# Altium footprint library 00001-A-01.PcbLib: 40 footprints (part 1 of 3)
Each footprint in its own frame and in the unit in brackets; x right, y up, seen from the top. Pads: shape width x height; smd on the part's side, far side on the other; paste and mask are expansions set on the pad; w line width, h text height; cw(c..) or ccw(c..) is an arc to the next point about the centre after c.
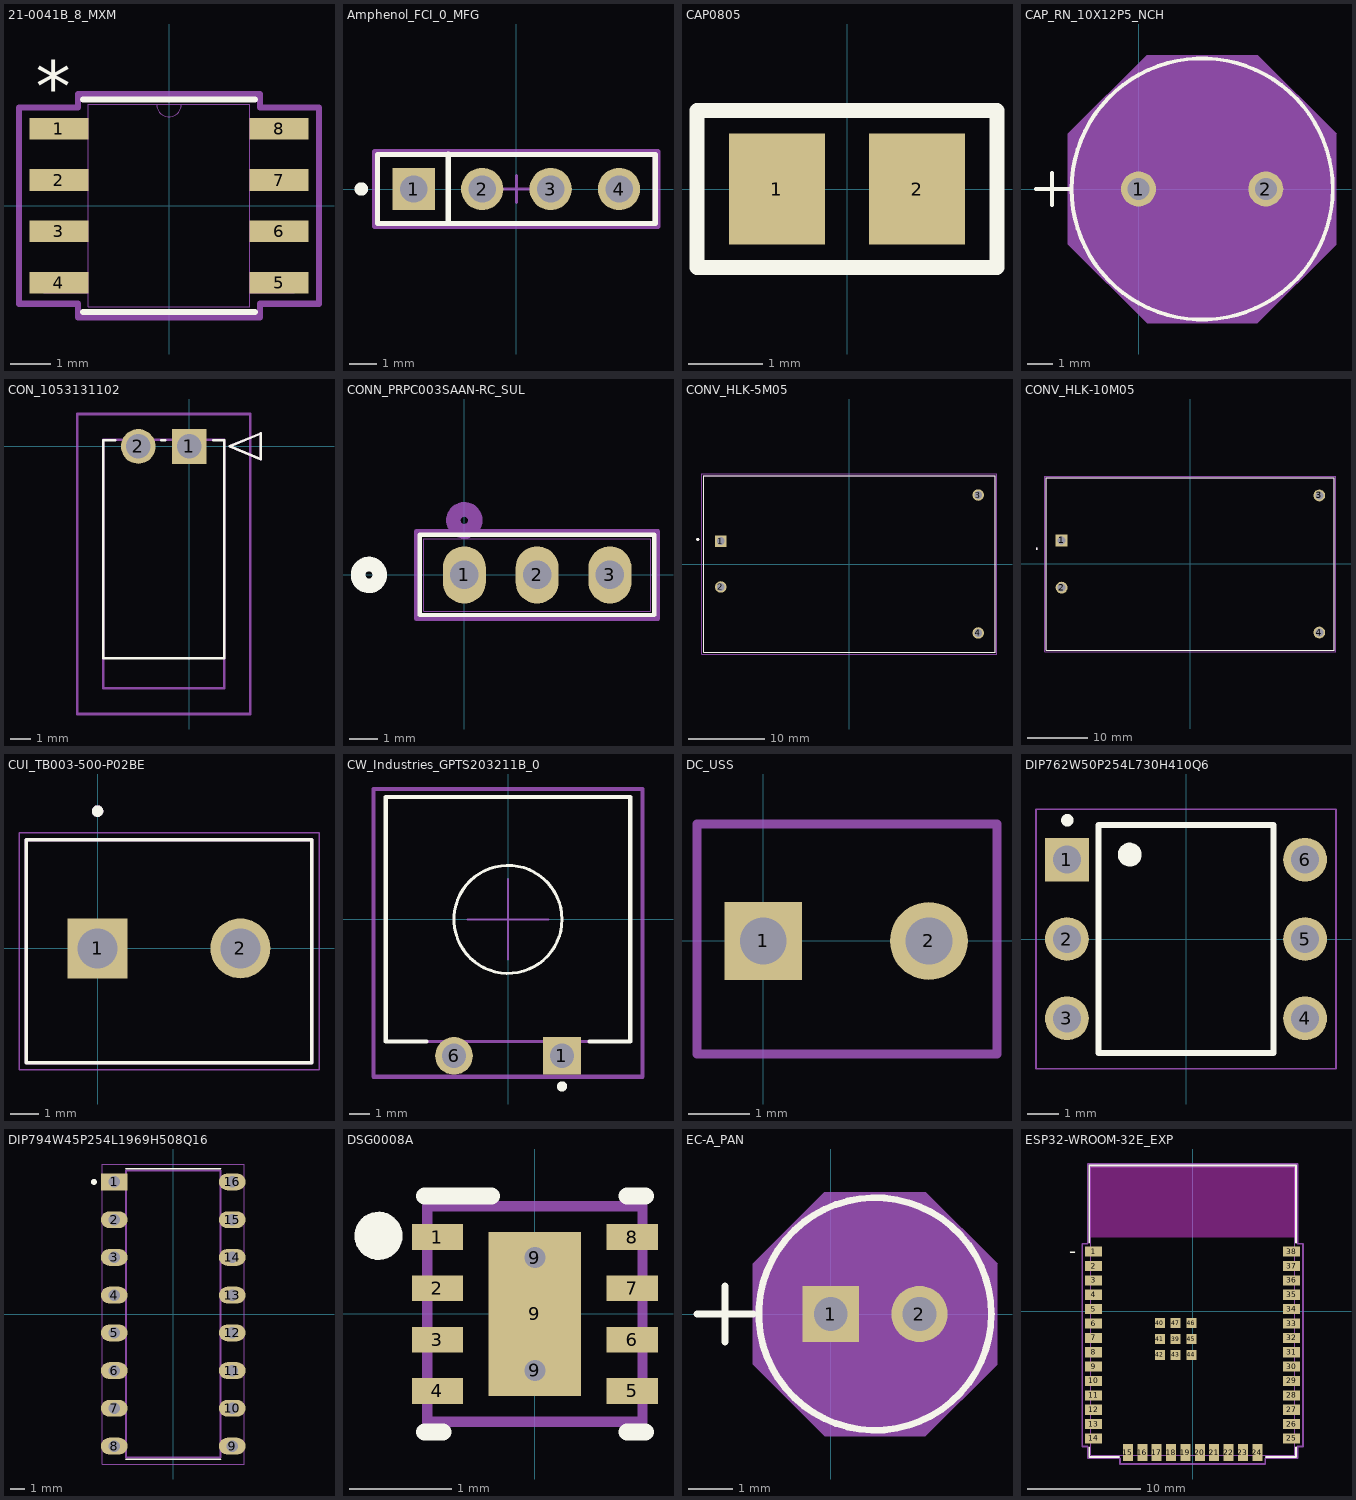
[diagram p0: the footprints below, top view; thin cyan lines are the x and y axes]

## 21-0041B_8_MXM [mil]
pads (8):
  rect 57.5x21 smd paste+0 mask+0: 1(-107.25,75) 2(-107.25,25) 3(-107.25,-25) 4(-107.25,-75) 5(107.25,-75) 6(107.25,-25) 7(107.25,25) 8(107.25,75)
Top Overlay:
  lines w6: -83.5,-103.5 83.5,-103.5 ; -83.5,103.5 83.5,103.5
  text "*" at -129.75,91 h50
Mechanical 13:
  lines w0: -12,98.5 ccw(c0,98.5) 12,98.5
  lines w1: -122,-84.5 -122,-65.5 -78.5,-65.5 -78.5,-84.5 -122,-84.5 ; -122,-34.5 -122,-15.5 -78.5,-15.5 -78.5,-34.5 -122,-34.5 ; -122,15.5 -122,34.5 -78.5,34.5 -78.5,15.5 -122,15.5 ; -122,65.5 -122,84.5 -78.5,84.5 -78.5,65.5 -122,65.5 ; -78.5,-98.5 78.5,-98.5 78.5,98.5 -78.5,98.5 -78.5,-98.5 ; 78.5,-84.5 78.5,-65.5 122,-65.5 122,-84.5 78.5,-84.5 ; 78.5,-34.5 78.5,-15.5 122,-15.5 122,-34.5 78.5,-34.5 ; 78.5,15.5 78.5,34.5 122,34.5 122,15.5 78.5,15.5 ; 78.5,65.5 78.5,84.5 122,84.5 122,65.5 78.5,65.5
  text "*" at -76,45.5 h50
Mechanical 15:
  lines w6: -146,-95.5 -146,95.5 -88.5,95.5 -88.5,108.5 88.5,108.5 88.5,95.5 146,95.5 146,-95.5 88.5,-95.5 88.5,-108.5 -88.5,-108.5 -88.5,-95.5 -146,-95.5
3D body "21-0041B_8_MXM.step": height 69.09, standoff 0, extent -122.01,-98.5 122.01,98.5

## Amphenol_FCI_0_MFG [mm]
pads (4):
  rect 1.57x1.57 hole 1.02 paste-2539.97 mask+0: 1(-3.81,0)
  round 1.57 hole 1.02 paste-2539.97 mask+0: 2(-1.27,0) 3(1.27,0) 4(3.81,0)
Top Overlay:
  circle w0.25: c-5.755,0 r0.125
  lines w0.2: -2.525,-1.275 -2.525,1.285 ; -5.155,-1.28 -5.155,1.28 5.155,1.28 5.155,-1.28 -5.155,-1.28
Mechanical 10:
  lines w0.2: -5.255,-1.38 -5.255,1.38 5.255,1.38 5.255,-1.38 -5.255,-1.38
Bottom Component Outline:
  lines w0.2: -5.155,-1.28 -5.155,1.28 5.155,1.28 5.155,-1.28 -5.155,-1.28
Mechanical 15:
  lines w0.1: -0.5,0 0.5,0 ; 0,-0.5 0,0.5
  lines w0.2: -5.255,-1.38 -5.255,1.38 5.255,1.38 5.255,-1.38 -5.255,-1.38
3D body "Conn_Amphenol_FCI_68000-204HLF_eec.STEP": height 0.25, standoff 0, extent -5.255,-1.38 5.255,1.38

## CAP0805 [mm]
pads (2):
  rect 1.3x1.5 smd: 1(-0.95,0) 2(0.95,0)
Top Overlay:
  lines w0.2: -2.032,-1.065 -2.032,1.065 2.032,1.065 2.032,-1.065 -2.032,-1.065
3D body "CAP0805.step": height 0.78, standoff 0, extent -1,-0.625 1,0.625

## CAP_RN_10X12P5_NCH [mil]
pads (2):
  round 54 / inner round 60 / far side round 54 hole 34 paste-99999 mask+0: 1(0,0) 2(196.85,0)
Top Overlay:
  circle w6: c98.43,0 r202
  lines w6: -158.57,0 -108.57,0 ; -133.57,-25 -133.57,25
Mechanical 13:
  circle w0: c98.43,0 r197
  lines w1: -158.57,0 -108.57,0 ; -133.57,-25 -133.57,25
Mechanical 15:
  region: -108.57,85.24 13.19,207 183.66,207 305.43,85.24 305.43,-85.24 183.66,-207 13.19,-207 -108.57,-85.24
  lines w1: -108.57,-85.24 13.19,-207 183.66,-207 305.43,-85.24 305.43,85.24 183.66,207 13.19,207 -108.57,85.24 -108.57,-85.24
3D body "CAP_RN_10X12P5_NCH.step": height 551.61, standoff -172.01, extent -98.58,-196.88 296.4,196.88

## CON_1053131102 [mm]
pads (2):
  rect 1.7x1.7 / inner round 1.524 / far side rect 1.7x1.7 hole 1.2 paste-2539.97 mask+0.076: 1(0,0)
  round 1.7 / inner round 1.524 / far side round 1.7 hole 1.2 paste-2539.97 mask+0.076: 2(-2.5,0)
Top Overlay:
  lines w0.127: -3.628,0.31 -4.22,0.31 -4.22,-10.38 1.72,-10.38 1.72,0.31 1.17,0.31 ; -1.372,0.31 -1.17,0.31 ; 1.974,0 3.498,0.635 3.498,-0.635 1.974,0
Mechanical 13:
  lines w0.127: -4.22,-11.84 1.72,-11.84 1.72,0.32 -4.22,0.32 -4.22,-11.84 ; 1.974,0 3.498,0.635 3.498,-0.635 1.974,0
Mechanical 15:
  lines w0.127: -5.49,-13.11 -5.49,1.59 2.99,1.59 2.99,-13.11 -5.49,-13.11
3D body "1053131102.stp": height 7.2, standoff -2.64, extent -4.24,-11.811 1.7,0.346

## CONN_PRPC003SAAN-RC_SUL [mm]
pads (3):
  oval 1.5x2 / inner oval 1.524x2 / far side oval 1.499x2 hole 0.991 paste-2539.97 mask+0: 1(0,0) 2(2.54,0) 3(5.08,0)
Top Overlay:
  circle w0.508: c-3.327,0 r0.381
  lines w0.152: -1.549,-1.397 6.629,-1.397 6.629,1.397 -1.549,1.397 -1.549,-1.397
Bottom Overlay:
  circle w0.508: c-3.327,0 r0.381
Mechanical 13:
  circle w0.508: c0,1.905 r0.381
  lines w0.025: -1.422,-1.27 6.502,-1.27 6.502,1.27 -1.422,1.27 -1.422,-1.27
Mechanical 15:
  lines w0.152: -1.676,-1.524 -1.676,1.524 6.756,1.524 6.756,-1.524 -1.676,-1.524
3D body "PRPC003SAAN-RC.STEP": height 7.62, standoff -3.05, extent -1.27,-1.165 6.35,1.375

## CONV_HLK-5M05 [mm]
pads (4):
  rect 1.5x1.5 / inner round 1.5 / far side rect 1.5x1.5 hole 1: 1(-16.8,3)
  round 1.5 hole 1: 2(-16.8,-3) 3(16.8,9) 4(16.8,-9)
Top Overlay:
  circle w0.2: c-19.8,3.2 r0.1
  lines w0.127: -19,-11.5 -19,11.5 19,11.5 19,-11.5 -19,-11.5
Mechanical 13:
  circle w0.2: c-19.8,3.2 r0.1
  lines w0.127: -19,-11.5 19,-11.5 19,11.5 -19,11.5 -19,-11.5
Mechanical 15:
  lines w0.05: -19.25,-11.75 19.25,-11.75 19.25,11.75 -19.25,11.75 -19.25,-11.75
3D body "step_temp.STEP": height 18.3, standoff -4.7, extent -19,-11.5 19,11.5

## CONV_HLK-10M05 [mm]
height 22
pads (4):
  rect 1.95x1.95 / inner round 1.95 / far side rect 1.95x1.95 hole 1.3: 1(-21.25,3.9)
  round 1.95 hole 1.3: 2(-21.25,-3.9) 3(21.25,11.3) 4(21.25,-11.3)
Top Overlay:
  circle w0.2: c-25.37,2.5 r0.1
  lines w0.127: -23.75,-14.25 -23.75,14.25 23.75,14.25 23.75,-14.25 -23.75,-14.25
Mechanical 13:
  circle w0.2: c-25.37,2.5 r0.1
  lines w0.127: -23.75,-14.25 -23.75,14.25 23.75,14.25 23.75,-14.25 -23.75,-14.25
Mechanical 15:
  lines w0.05: -24,-14.5 24,-14.5 24,14.5 -24,14.5 -24,-14.5
3D body "step_temp.STEP": height 22, standoff -5, extent -23.75,-14.25 23.75,14.25

## CUI_TB003-500-P02BE [mm]
pads (2):
  rect 2.1x2.1 / inner round 2.1 / far side rect 2.1x2.1 hole 1.4: 1(0,0)
  round 2.1 hole 1.4: 2(5,0)
Top Overlay:
  circle w0.2: c0,4.8 r0.1
  lines w0.127: -2.5,-4 -2.5,3.8 7.5,3.8 7.5,-4 -2.5,-4
Mechanical 13:
  circle w0.2: c0,4.8 r0.1
  lines w0.127: -2.5,-4 -2.5,3.8 7.5,3.8 7.5,-4 -2.5,-4
Mechanical 15:
  lines w0.05: -2.75,-4.25 7.75,-4.25 7.75,4.05 -2.75,4.05 -2.75,-4.25
3D body "Same_Sky_TB003-500-P02BE.step": height 10.3, standoff -4, extent -3.062,-3.735 7.438,4.065

## CW_Industries_GPTS203211B_0 [mm]
pads (2):
  rect 1.85x1.85 hole 1.2 paste-2539.97 mask+0: 1(2.65,-6.7)
  round 1.85 hole 1.2 paste-2539.97 mask+0: 6(-2.65,-6.7)
Top Overlay:
  circle w0.15: c0,0 r2.65
  circle w0.25: c2.65,-8.2 r0.125
  lines w0.2: -4,-6 -6,-6 -6,6 6,6 6,-6 4,-6
Mechanical 10:
  lines w0.2: -6.6,-7.725 -6.6,6.4 6.6,6.4 6.6,-7.725 -6.6,-7.725
  text ".Designator" at 0,-0.663 h1
Bottom Component Outline:
  lines w0.15: -6,-6 -6,6 6,6 6,-6 -6,-6
Mechanical 15:
  lines w0.1: -1.98,0 1.98,0 ; 0,-1.98 0,1.98
  lines w0.2: -6.6,-7.725 -6.6,6.4 6.6,6.4 6.6,-7.725 -6.6,-7.725
3D body "3dmodel.step": height 0.25, standoff 0, extent -6.6,-7.725 6.6,6.4

## DC_USS [mil]
pads (2):
  rect 50x50 / inner round 60 / far side rect 50x50 hole 30 paste-99999 mask+0: 1(0,0)
  round 50 / inner round 60 / far side round 50 hole 30 paste-99999 mask+0: 2(106.3,0)
Mechanical 15:
  lines w6: -42.5,-72.5 -42.5,75 150,75 150,-72.5 -42.5,-72.5
3D body "NTCLE213E3.step": height 759.7, standoff -854.33, extent -4.01,-46.8 111.73,51.62

## DIP762W50P254L730H410Q6 [mm]
pads (6):
  rect 1.4x1.4 / inner round 1.4 / far side rect 1.4x1.4 hole 0.9: 1(-3.81,2.54)
  round 1.4 hole 0.9: 2(-3.81,0) 3(-3.81,-2.54) 4(3.81,-2.54) 5(3.81,0) 6(3.81,2.54)
Top Overlay:
  circle w0.2: c-1.8,2.7 r0.283
  circle w0.2: c-3.8,3.8 r0.1
  lines w0.2: -1.8,2.7 -2,2.6 ; -2,2.6 -1.8,2.9 -1.6,2.7 -1.7,2.5 -2,2.6 ; -2.8,-3.65 2.8,-3.65 2.8,3.65 -2.8,3.65 -2.8,-3.65
Mechanical 15:
  lines w0.05: -4.8,-4.15 4.8,-4.15 4.8,4.15 -4.8,4.15 -4.8,-4.15
3D body "step_temp.STEP": height 4.61, standoff -3.45, extent -4.108,-4.3 4.108,4.3

## DIP794W45P254L1969H508Q16 [mm]
pads (16):
  rect 1.8x1.13 / inner oval 1.8x1.13 / far side rect 1.8x1.13 hole 0.78: 1(-3.97,8.89)
  oval 1.8x1.13 hole 0.78: 2(-3.97,6.35) 3(-3.97,3.81) 4(-3.97,1.27) 5(-3.97,-1.27) 6(-3.97,-3.81) 7(-3.97,-6.35) 8(-3.97,-8.89) 9(3.97,-8.89) 10(3.97,-6.35) 11(3.97,-3.81) 12(3.97,-1.27) 13(3.97,1.27) 14(3.97,3.81) 15(3.97,6.35) 16(3.97,8.89)
Top Overlay:
  circle w0.2: c-5.334,8.89 r0.1
  lines w0.127: -3.175,-9.775 3.175,-9.775 ; -3.175,9.775 3.175,9.775
Mechanical 13:
  lines w0.127: -3.175,-9.653 3.175,-9.653 3.175,9.653 -3.175,9.653 -3.175,-9.653
Mechanical 15:
  lines w0.05: -4.785,-10.095 4.785,-10.095 4.785,10.095 -4.785,10.095 -4.785,-10.095
3D body "step_temp.STEP": height 5.08, standoff -3.28, extent -3.845,-9.652 3.845,9.652

## DSG0008A [mm]
pads (11):
  rect 0.5x0.25 smd paste+0 mask+0.051: 1(-0.95,0.75) 2(-0.95,0.25) 3(-0.95,-0.25) 4(-0.95,-0.75) 5(0.95,-0.75) 6(0.95,-0.25) 7(0.95,0.25) 8(0.95,0.75)
  round 0.5 / inner round 1.524 / far side round 0.5 hole 0.203 paste-2539.97 mask+0.076: 9(0,-0.55) 9(0,0.55)
  rect 0.9x1.6 smd paste-0.45 mask+0.051: 9(0,0)
Top Overlay:
  circle w0.07: c-1.524,0.762 r0.2
  region: -1.524,0.562 -1.564,0.562 -1.637,0.592 -1.694,0.649 -1.724,0.722 -1.724,0.762 -1.724,0.802 -1.694,0.875 -1.637,0.932 -1.564,0.962 -1.524,0.962 -1.484,0.962 -1.411,0.932 -1.354,0.875 -1.324,0.802 -1.324,0.762 -1.324,0.722 -1.354,0.649 -1.411,0.592 -1.484,0.562
  lines w0.17: -1.075,-1.15 -0.9,-1.15 ; -1.075,1.15 -0.425,1.15 ; 0.9,-1.15 1.075,-1.15 ; 0.9,1.15 1.075,1.15
Top Paste:
  region: -0.449,-0.761 -0.45,-0.751 -0.45,-0.149 -0.449,-0.139 -0.446,-0.13 -0.442,-0.122 -0.436,-0.114 -0.428,-0.108 -0.42,-0.104 -0.411,-0.101 -0.401,-0.1 0.401,-0.1 0.411,-0.101 0.42,-0.104 0.428,-0.108 0.436,-0.114 0.442,-0.122 0.446,-0.13 0.449,-0.139 0.45,-0.149 0.45,-0.751 0.449,-0.761 0.446,-0.77 0.442,-0.778 0.436,-0.786 0.428,-0.792 0.42,-0.796 0.411,-0.799 0.401,-0.8 -0.401,-0.8 -0.411,-0.799 -0.42,-0.796 -0.428,-0.792 -0.436,-0.786 -0.442,-0.778 -0.446,-0.77
  region: -0.449,0.139 -0.45,0.149 -0.45,0.751 -0.449,0.761 -0.446,0.77 -0.442,0.778 -0.436,0.786 -0.428,0.792 -0.42,0.796 -0.411,0.799 -0.401,0.8 0.401,0.8 0.411,0.799 0.42,0.796 0.428,0.792 0.436,0.786 0.442,0.778 0.446,0.77 0.449,0.761 0.45,0.751 0.45,0.149 0.449,0.139 0.446,0.13 0.442,0.122 0.436,0.114 0.428,0.108 0.42,0.104 0.411,0.101 0.401,0.1 -0.401,0.1 -0.411,0.101 -0.42,0.104 -0.428,0.108 -0.436,0.114 -0.442,0.122 -0.446,0.13
Mechanical 13:
  lines w0.1: -1.05,-1.05 1.05,-1.05 1.05,1.05 -1.05,1.05 -1.05,-1.05
3D body "DSG0008A.stp": height 0.77, standoff 0, extent -1,-1 1,1

## EC-A_PAN [mil]
pads (2):
  rect 50x50 / inner round 60 / far side rect 50x50 hole 30 paste-99999 mask+0: 1(0,0)
  round 50 / inner round 60 / far side round 50 hole 30 paste-99999 mask+0: 2(79,0)
Top Overlay:
  circle w6: c39.5,0 r103.5
  lines w6: -119,0 -69,0 ; -94,-25 -94,25
Mechanical 13:
  circle w0: c39.5,0 r98.5
  lines w1: -119,0 -69,0 ; -94,-25 -94,25
Mechanical 15:
  region: -69,44.68 -5.18,108.5 84.18,108.5 148,44.68 148,-44.68 84.18,-108.5 -5.18,-108.5 -69,-44.68
  lines w1: -69,-44.68 -5.18,-108.5 84.18,-108.5 148,-44.68 148,44.68 84.18,108.5 -5.18,108.5 -69,44.68 -69,-44.68
3D body "EC-A_PAN.step": height 423.62, standoff -160, extent -59.02,-98.5 139.21,98.5

## ESP32­WROOM­32E_EXP [mil]
pads (47):
  rect 59x35 smd paste+0 mask+0: 1(-344.5,207.1) 2(-344.5,157.1) 3(-344.5,107.1) 4(-344.5,57.1) 5(-344.5,7.1) 6(-344.5,-42.9) 7(-344.5,-92.9) 8(-344.5,-142.9) 9(-344.5,-192.9) 10(-344.5,-242.9) 11(-344.5,-292.9) 12(-344.5,-342.9) 13(-344.5,-392.9) 14(-344.5,-442.9) 25(344.5,-442.9) 26(344.5,-392.9) 27(344.5,-342.9) 28(344.5,-292.9) 29(344.5,-242.9) 30(344.5,-192.9) 31(344.5,-142.9) 32(344.5,-92.9) 33(344.5,-42.9) 34(344.5,7.1) 35(344.5,57.1) 36(344.5,107.1) 37(344.5,157.1) 38(344.5,207.1)
  rect 35x59 smd paste+0 mask+0: 15(-225,-492.15) 16(-175,-492.15) 17(-125,-492.15) 18(-75,-492.15) 19(-25,-492.15) 20(25,-492.15) 21(75,-492.15) 22(125,-492.15) 23(175,-492.15) 24(225,-492.15)
  rect 35x35 smd paste+0 mask+0: 39(-59.1,-96.9) 40(-114.2,-41.8) 41(-114.2,-96.9) 42(-114.2,-152) 43(-59.1,-152) 44(-4,-152) 45(-4,-96.9) 46(-4,-41.8) 47(-59.1,-41.8)
Top Overlay:
  lines w6: -359.5,-473.5 -359.5,-507 -255.6,-507 ; -359.5,237.7 -359.5,507 359.5,507 359.5,237.7 ; 255.6,-507 359.5,-507 359.5,-473.5
  text "-" at -430,185 h50
Keep-Out Layer:
  region: 354.5,258 354.5,502 -354.5,502 -354.5,258
Mechanical 13:
  lines w1: -354.5,-502 -354.5,502 354.5,502 354.5,-502 -354.5,-502
  text "*" at -302.5,182.1 h50
Mechanical 15:
  lines w6: -384,-470.4 -364.5,-470.4 -364.5,-512 -252.5,-512 -252.5,-531.65 252.5,-531.65 252.5,-512 364.5,-512 364.5,-470.4 384,-470.4 384,234.6 364.5,234.6 364.5,512 -364.5,512 -364.5,234.6 -384,234.6 -384,-470.4
3D body "ESP32-WROOM-32E-N4.STEP": height 127.95, standoff 0, extent -354.33,-501.97 354.33,501.97